# Altium footprint library SnapEDApcb.PcbLib: 1 footprints
Each footprint in its own frame and in the unit in brackets; x right, y up, seen from the top. Pads: shape width x height; smd on the part's side, far side on the other; paste and mask are expansions set on the pad; w line width, h text height; cw(c..) or ccw(c..) is an arc to the next point about the centre after c.
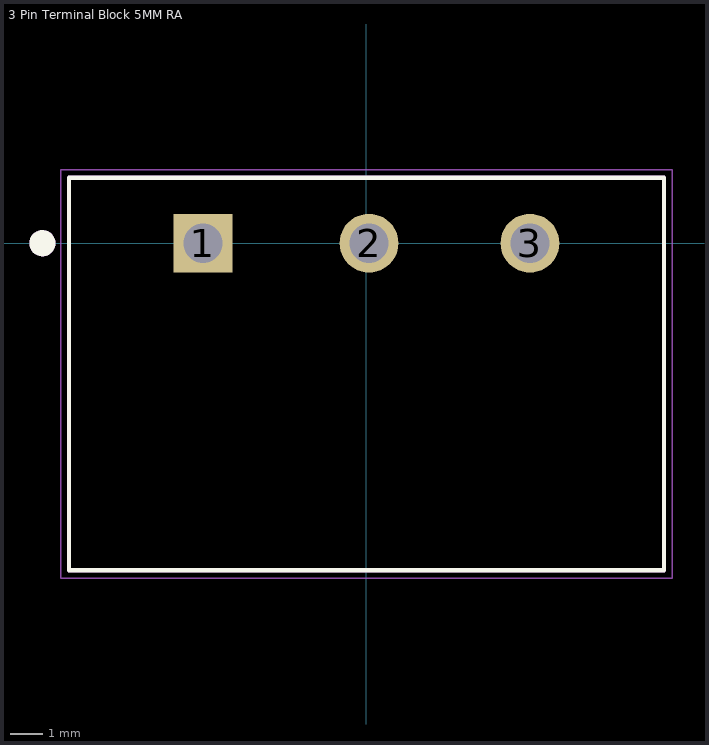
[diagram p0: the footprint, top view; thin cyan lines are the x and y axes]

## 3 Pin Terminal Block 5MM RA [mm] "3 Pin Terminal Block HDR 5MM THT RA 231-433_001-000"
pads (3):
  rect 1.8x1.8 hole 1.2: 1(-5,0)
  round 1.8 hole 1.2: 2(0.08,0) 3(5,0)
Top Overlay:
  circle w0.4: c-9.91,0 r0.2
  lines w0.127: -9.1,-10 9.1,-10 9.1,2 -9.1,2 -9.1,-10
Mechanical 13:
  circle w0.4: c-9.906,0 r0.2
  lines w0.127: -9.1,-10 -9.1,2 9.1,2 9.1,-10 -9.1,-10
Mechanical 15:
  lines w0.05: -9.35,-10.25 9.35,-10.25 9.35,2.25 -9.35,2.25 -9.35,-10.25
3D body "2342079-3--3DModel-STEP-1.STEP": height 8.97, standoff -2.28, extent -8.418,-10.064 8.382,1.936